# Altium schematic symbol library Schlib.SchLib: 53 symbols
Pins are listed as number, name and electrical type; pins without a type are passive.

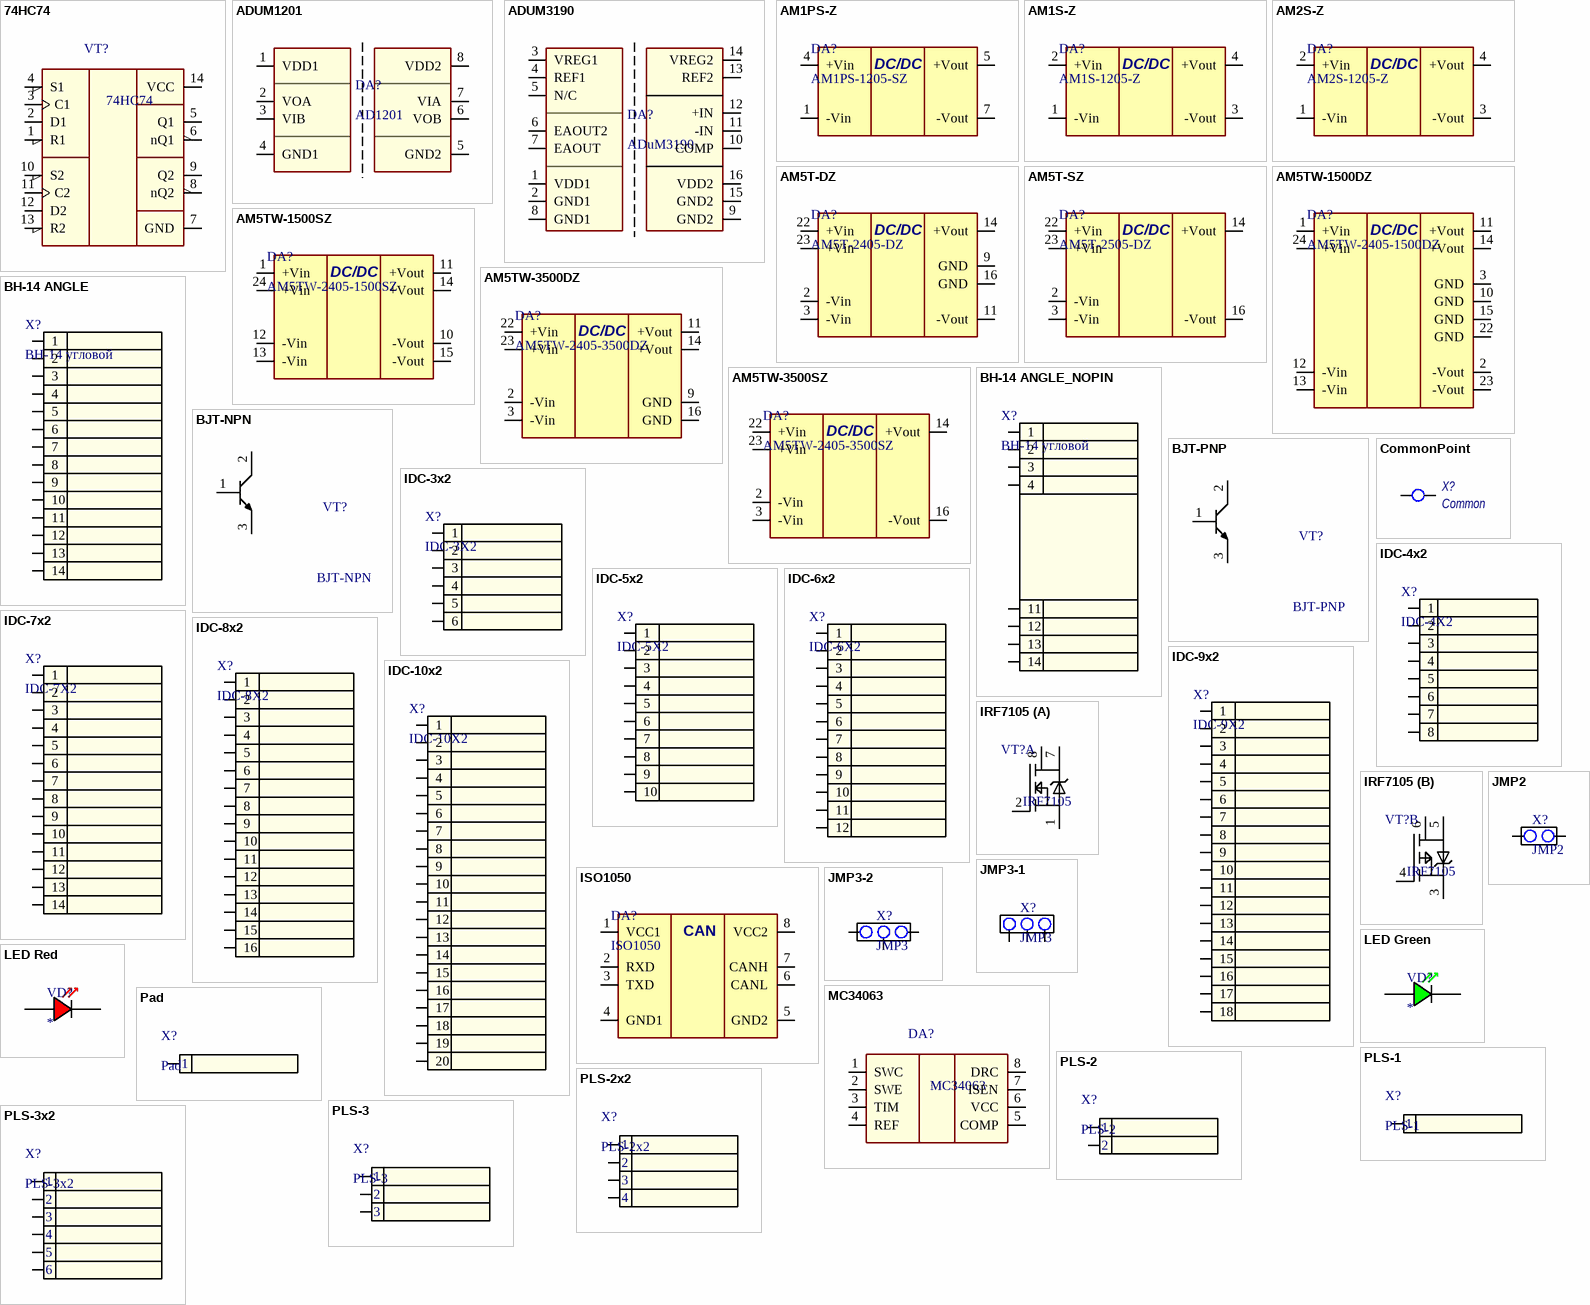
[diagram p0: symbols 74HC74 to PLS-3x2]

## 74HC74
designator VT?
Name: D-Триггер сдвоенный; NameSRT: 74HC74
footprint SO14-3.9
pins: 1 R1, 2 D1, 3 C1, 4 S1, 5 Q1, 6 nQ1, 7 GND, 8 nQ2, 9 Q2, 10 S2, 11 C2, 12 D2, 13 R2, 14 VCC

## ADUM1201
designator DA?, comment AD1201
RX/TX ISO; Name: изолятор AD1201; ManufacnurerPartNumber: изолятор AD1201; NameSRT: AD1201
footprint SOP-8
pins: 1 VDD1, 2 VOA, 3 VIB, 4 GND1, 5 GND2, 6 VOB, 7 VIA, 8 VDD2

## ADUM3190
designator DA?, comment ADuM3190
Аналоговый изолятор; Name: Аналоговый изолятор ADuM3190; ManufacnurerPartNumber: Аналоговый изолятор ADuM3190; =NameSRT: ADuM3190
footprint QSOP-16
pins: 1 VDD1, 2 GND1, 3 VREG1, 4 REF1, 5 N/C, 6 EAOUT2, 7 EAOUT, 8 GND1, 9 GND2, 10 COMP, 11 -IN, 12 +IN, 13 REF2, 14 VREG2, 15 GND2, 16 VDD2

## AM1PS-Z
designator DA?, comment AM1PS-1205-SZ
DC/DC преобразователь; Name: DC/DC преобразователь AM1PS-1205NZ; NameSRT: AM1PS-1205-SZ
footprint AM1PS
pins: 1 -Vin, 4 +Vin, 5 +Vout, 7 -Vout
text: DC/DC

## AM1S-Z
designator DA?, comment AM1S-1205-Z
DC/DC преобразователь; Name: DC/DC преобразователь AM1S-1205SZ; NameSRT: AM1S-1205-Z
footprint AM1S
pins: 1 -Vin, 2 +Vin, 3 -Vout, 4 +Vout
text: DC/DC

## AM2S-Z
designator DA?, comment AM2S-1205-Z
DC/DC преобразователь; Name: DC/DC преобразователь AM2S-1205SZ; NameSRT: AM2S-1205-Z
footprint AM2S
pins: 1 -Vin, 2 +Vin, 3 -Vout, 4 +Vout
text: DC/DC

## AM5T-DZ
designator DA?, comment AM5T-2405-DZ
DC/DC преобразователь; Name: DC/DC преобразователь AM5T-2405DZ; NameSRT: AM5T-2405-DZ
footprint AM5T
pins: 2 -Vin, 3 -Vin, 9 GND, 11 -Vout, 14 +Vout, 16 GND, 22 +Vin, 23 +Vin
text: DC/DC

## AM5T-SZ
designator DA?, comment AM5T-2505-DZ
DC/DC преобразователь; Name: DC/DC преобразователь AM5T-2405SZ; NameSRT: AM5T-2505-DZ
footprint AM5T
pins: 2 -Vin, 3 -Vin, 14 +Vout, 16 -Vout, 22 +Vin, 23 +Vin
text: DC/DC

## AM5TW-1500DZ
designator DA?, comment AM5TW-2405-1500DZ
DC/DC преобразователь; Name: DC/DC преобразователь AM5TW-2405DZ; NameSRT: AM5TW-2405-1500DZ
footprint AM5TW
pins: 1 +Vin, 2 -Vout, 3 GND, 10 GND, 11 +Vout, 12 -Vin, 13 -Vin, 14 +Vout, 15 GND, 22 GND, 23 -Vout, 24 +Vin
text: DC/DC

## AM5TW-1500SZ
designator DA?, comment AM5TW-2405-1500SZ
DC/DC преобразователь; Name: DC/DC преобразователь AM5TW-2405DZ; NameSRT: AM5TW-2405-1500SZ
footprint AM5TW
pins: 1 +Vin, 10 -Vout, 11 +Vout, 12 -Vin, 13 -Vin, 14 +Vout, 15 -Vout, 24 +Vin
text: DC/DC

## AM5TW-3500DZ
designator DA?, comment AM5TW-2405-3500DZ
DC/DC преобразователь; Name: DC/DC преобразователь AM5TW-2405DZ; NameSRT: AM5TW-2405-3500DZ
footprint AM5TW
pins: 2 -Vin, 3 -Vin, 9 GND, 11 +Vout, 14 +Vout, 16 GND, 22 +Vin, 23 +Vin
text: DC/DC

## AM5TW-3500SZ
designator DA?, comment AM5TW-2405-3500SZ
DC/DC преобразователь; Name: DC/DC преобразователь AM5TW-2405SZ; NameSRT: AM5TW-2405-3500SZ
footprint AM5TW
pins: 2 -Vin, 3 -Vin, 14 +Vout, 16 -Vout, 22 +Vin, 23 +Vin
text: DC/DC

## BH-14 ANGLE
designator X?, comment BH-14 угловой
Разъем BH-14; Name: Разъем на плату BH-14; NameSRT: BH-14 угловой
footprint BH14-ANGLE
pins: 1, 2, 3, 4, 5, 6, 7, 8, 9, 10, 11, 12, 13, 14

## BH-14 ANGLE_NOPIN
designator X?, comment BH-14 угловой
Разъем BH-14 с пробелом; Name: Разъем на плату BH-14; NameSRT: BH-14 угловой
footprint BH14-ANGLE NOPINS
pins: 1, 2, 3, 4, 11, 12, 13, 14

## BJT-NPN
designator VT?
Name: BJT-NPN; NameST: BJT-NPN
footprint BJT TO-220
pins: 1, 2, 3
1 alternate drawing of the same symbol

## BJT-PNP
designator VT?
Name: BJT-PNP; NameST: BJT-PNP
footprint BJT TO-220
pins: 1, 2, 3
1 alternate drawing of the same symbol

## CommonPoint
designator X?, comment Common
Name: Точка присоединения внешнего компонента
footprint COMMON POINT
pins: 1 P, 2 N

## IDC-3x2
designator X?, comment IDC-3X2
Name: Штыри IDC 2.0мм; NameSRT: IDC-3X2
footprint IDC-3X2
pins: 1, 2, 3, 4, 5, 6

## IDC-4x2
designator X?, comment IDC-4X2
Name: Штыри IDC 2.0мм; NameSRT: IDC-4X2
footprint IDC-4X2
pins: 1, 2, 3, 4, 5, 6, 7, 8

## IDC-5x2
designator X?, comment IDC-5X2
Name: Штыри IDC 2.0мм; NameSRT: IDC-5X2
footprint IDC-5X2
pins: 1, 2, 3, 4, 5, 6, 7, 8, 9, 10

## IDC-6x2
designator X?, comment IDC-6X2
Name: Штыри IDC 2.0мм; NameSRT: IDC-6X2
footprint IDC-6X2
pins: 1, 2, 3, 4, 5, 6, 7, 8, 9, 10, 11, 12

## IDC-7x2
designator X?, comment IDC-7X2
Name: Штыри IDC 2.0мм; NameSRT: IDC-7X2
footprint IDC-7X2
pins: 1, 2, 3, 4, 5, 6, 7, 8, 9, 10, 11, 12, 13, 14

## IDC-8x2
designator X?, comment IDC-8X2
Name: Штыри IDC 2.0мм; NameSRT: IDC-8X2
footprint IDC-8X2
pins: 1, 2, 3, 4, 5, 6, 7, 8, 9, 10, 11, 12, 13, 14, 15, 16

## IDC-9x2
designator X?, comment IDC-9X2
Name: Штыри IDC 2.0мм; NameSRT: IDC-9X2
footprint IDC-9X2
pins: 1, 2, 3, 4, 5, 6, 7, 8, 9, 10, 11, 12, 13, 14, 15, 16, 17, 18

## IDC-10x2
designator X?, comment IDC-10X2
Name: Штыри IDC 2.0мм; NameSRT: IDC-10X2
footprint IDC-10X2
pins: 1, 2, 3, 4, 5, 6, 7, 8, 9, 10, 11, 12, 13, 14, 15, 16, 17, 18, 19, 20

## IRF7105
designator VT?
Name: P-ch + N-ch полевые транзистора IRF7105; =NameSRT: IRF7105
footprint SOP-8
part A pins: 1, 2, 7, 8
part B pins: 3, 4, 5, 6

## ISO1050
designator DA?
Изолятор CAN; Name: Изолятор CAN ISO1050; NameSRT: ISO1050
footprint DIP-8 SMD
pins: 1 VCC1, 2 RXD, 3 TXD, 4 GND1, 5 GND2, 6 CANL, 7 CANH, 8 VCC2
text: CAN

## JMP2
designator X?
Name: Штыри PLS-2
footprint PLS-2
pins: 1, 2

## JMP3-1
designator X?, comment JMP3
Name: Штыри PLS-3
footprint PLS-3
pins: 1, 2, 3

## JMP3-2
designator X?, comment JMP3
Name: Штыри PLS-3
footprint PLS-3
pins: 1, 2, 3

## LED Green
designator VD?
светодиод d3мм зелёный; Name: Светодиод d3мм зеленый L-424GDT
footprint LED 3MM
footprint LED 5mm
footprint LED 10MM
pins: 1 A, 2 K

## LED Red
designator VD?
светодиод d3мм красный; Name: Светодиод 3мм красный L-424IDT
footprint LED 5mm
footprint LED 3MM
footprint LED 10MM
pins: 1 A, 2 K

## MC34063
designator DA?
Name: Импульсный регулятор; NameSRT: MC34063
footprint SOP-8
pins: 1 SWC, 2 SWE, 3 TIM, 4 REF, 5 COMP, 6 VCC, 7 ISEN, 8 DRC

## Pad
designator X?
Name: Pad
footprint Pad 2.0x2.0
footprint Pad 1.5x1.5
footprint Pad 2.5x2.5
footprint Pad 3.0x3.0
footprint Pad 3.5x3.5
footprint Pad 1.0x1.0
pins: 1

## PLS-1
designator X?
Name: Штыри PLS-1
footprint PLS-1
pins: 1

## PLS-2
designator X?
Name: Штыри PLS-2
footprint PLS-2
pins: 1, 2

## PLS-2x2
designator X?
Name: Штыри PLS-2x2
footprint PLS-2x2
pins: 1, 2, 3, 4

## PLS-3
designator X?
Name: Штыри PLS-3
footprint PLS-3
pins: 1, 2, 3

## PLS-3x2
designator X?
Name: Штыри PLS-3x2
footprint PLS-3x2
pins: 1, 2, 3, 4, 5, 6

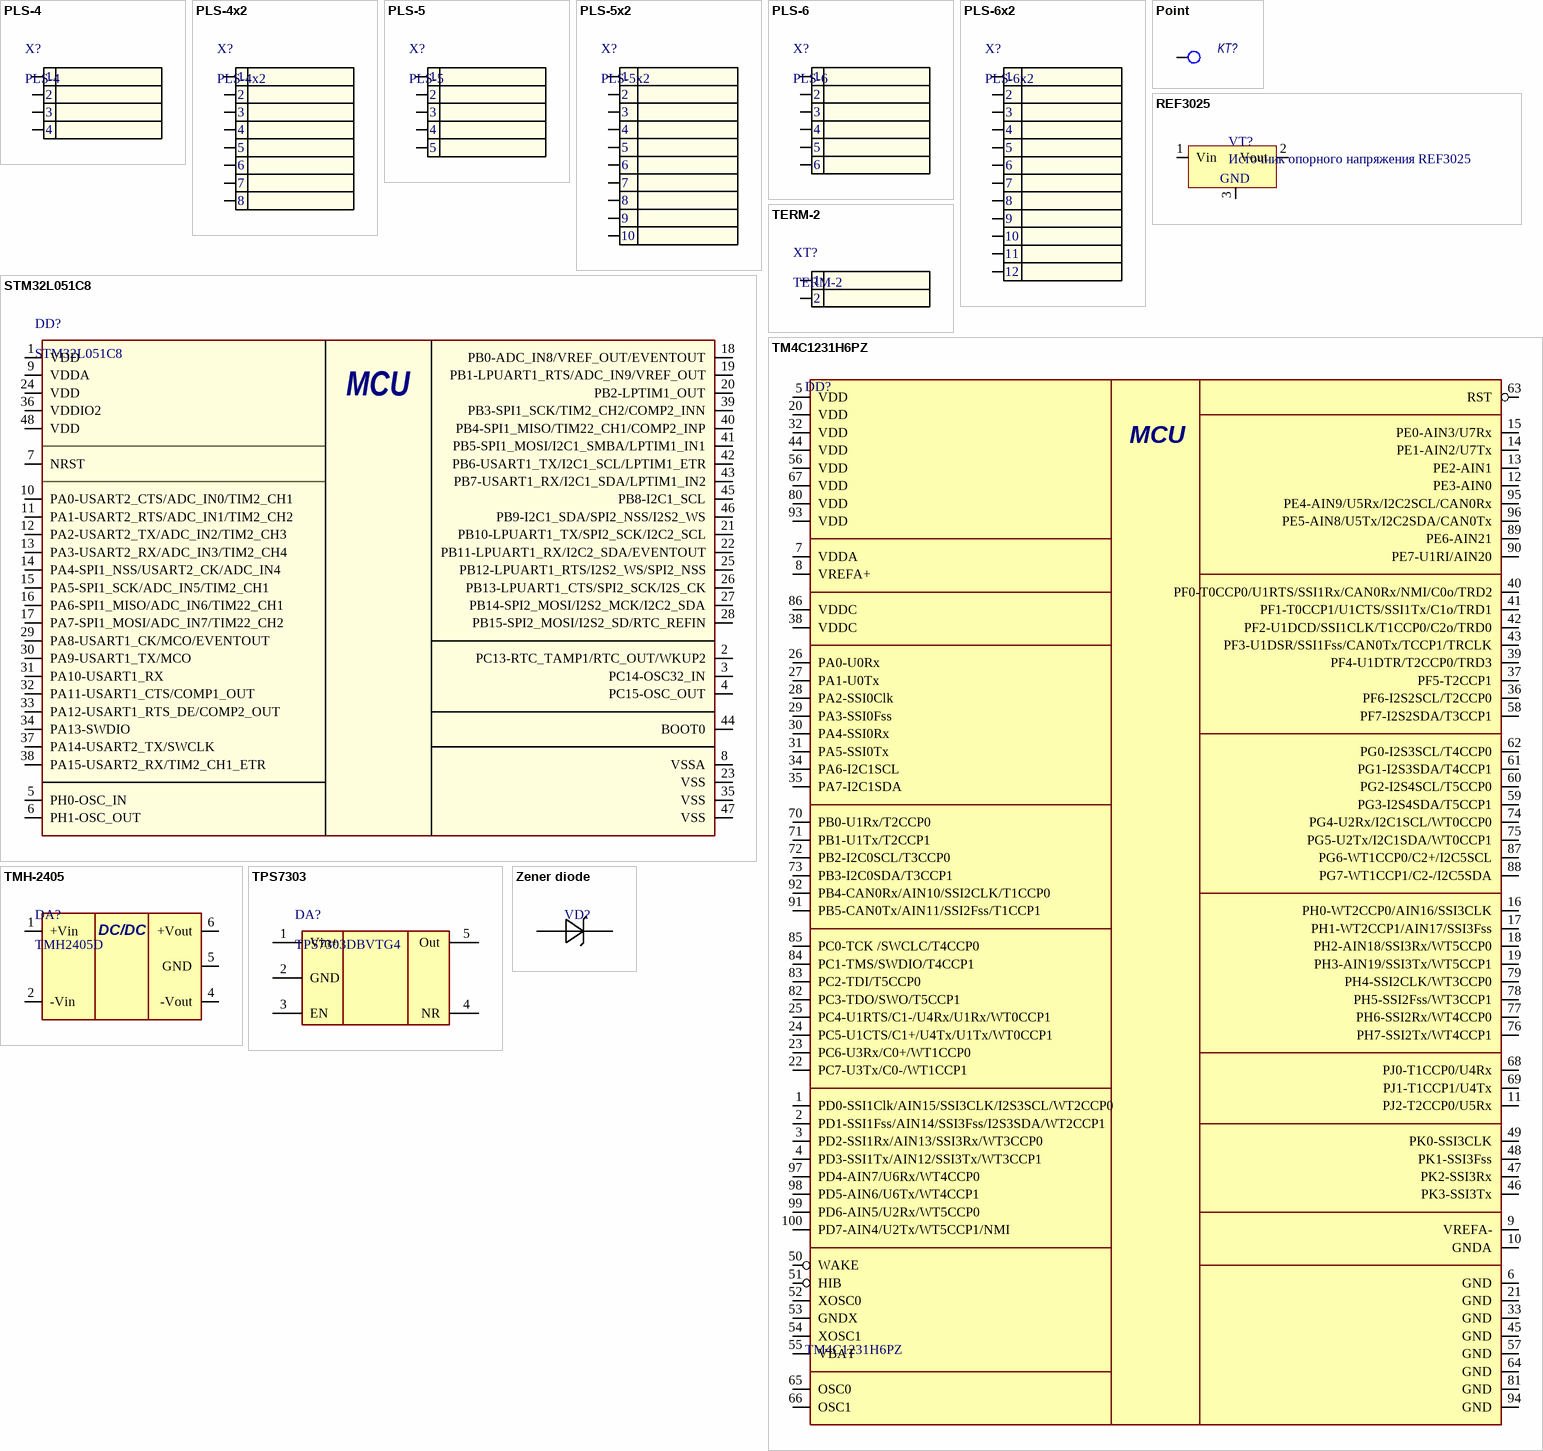
[diagram p1: symbols PLS-4 to Zener diode]

## PLS-4
designator X?
Name: Штыри PLS-4
footprint PLS-4
pins: 1, 2, 3, 4

## PLS-4x2
designator X?
Name: Штыри PLS-4x2
footprint PLS-4x2
pins: 1, 2, 3, 4, 5, 6, 7, 8

## PLS-5
designator X?
Name: Штыри PLS-5
footprint PLS-5
pins: 1, 2, 3, 4, 5

## PLS-5x2
designator X?
Name: Штыри PLS-5x2
footprint PLS-5x2
pins: 1, 2, 3, 4, 5, 6, 7, 8, 9, 10

## PLS-6
designator X?
Name: Штыри PLS-6
footprint PLS-6
pins: 1, 2, 3, 4, 5, 6

## PLS-6x2
designator X?
Name: Штыри PLS-6x2
footprint PLS-6x2
pins: 1, 2, 3, 4, 5, 6, 7, 8, 9, 10, 11, 12

## Point
designator KT?  (value not drawn)
Name: Точка присоединения внешнего компонента
footprint Pad 1.0x1.0 NOHOLE
footprint Pad 1.5x1.5 NOHOLE
footprint Pad 2.0x2.0 NOHOLE
pins: 1

## REF3025
designator VT?, comment Источник опорного напряжения REF3025
Name: Источник опорного напряжения REF3025; NameSRT: REF3025
footprint BJT SOT-23-3
pins: 1 Vin, 2 Vout, 3
text: GND

## STM32L051C8
designator DD?
Name: Микроконтроллер STM32L051C8T6; NameSRT: STM32L051C8
footprint STM32L051C8T6
pins: 1 VDD, 2 PC13-RTC_TAMP1/RTC_OUT/WKUP2, 3 PC14-OSC32_IN, 4 PC15-OSC_OUT, 5 PH0-OSC_IN, 6 PH1-OSC_OUT, 7 NRST, 8 VSSA, 9 VDDA, 10 PA0-USART2_CTS/ADC_IN0/TIM2_CH1, 11 PA1-USART2_RTS/ADC_IN1/TIM2_CH2, 12 PA2-USART2_TX/ADC_IN2/TIM2_CH3, 13 PA3-USART2_RX/ADC_IN3/TIM2_CH4, 14 PA4-SPI1_NSS/USART2_CK/ADC_IN4, 15 PA5-SPI1_SCK/ADC_IN5/TIM2_CH1, 16 PA6-SPI1_MISO/ADC_IN6/TIM22_CH1, 17 PA7-SPI1_MOSI/ADC_IN7/TIM22_CH2, 18 PB0-ADC_IN8/VREF_OUT/EVENTOUT, 19 PB1-LPUART1_RTS/ADC_IN9/VREF_OUT, 20 PB2-LPTIM1_OUT, 21 PB10-LPUART1_TX/SPI2_SCK/I2C2_SCL, 22 PB11-LPUART1_RX/I2C2_SDA/EVENTOUT, 23 VSS, 24 VDD, 25 PB12-LPUART1_RTS/I2S2_WS/SPI2_NSS, 26 PB13-LPUART1_CTS/SPI2_SCK/I2S_CK, 27 PB14-SPI2_MOSI/I2S2_MCK/I2C2_SDA, 28 PB15-SPI2_MOSI/I2S2_SD/RTC_REFIN, 29 PA8-USART1_CK/MCO/EVENTOUT, 30 PA9-USART1_TX/MCO, 31 PA10-USART1_RX, 32 PA11-USART1_CTS/COMP1_OUT, 33 PA12-USART1_RTS_DE/COMP2_OUT, 34 PA13-SWDIO, 35 VSS, 36 VDDIO2, 37 PA14-USART2_TX/SWCLK, 38 PA15-USART2_RX/TIM2_CH1_ETR, 39 PB3-SPI1_SCK/TIM2_CH2/COMP2_INN, 40 PB4-SPI1_MISO/TIM22_CH1/COMP2_INP, 41 PB5-SPI1_MOSI/I2C1_SMBA/LPTIM1_IN1, 42 PB6-USART1_TX/I2C1_SCL/LPTIM1_ETR, 43 PB7-USART1_RX/I2C1_SDA/LPTIM1_IN2, 44 BOOT0, 45 PB8-I2C1_SCL, 46 PB9-I2C1_SDA/SPI2_NSS/I2S2_WS, 47 VSS, 48 VDD
text: MCU

## TERM-2
designator XT?
Name: Клеммный блок
footprint TERM-3.81-2
pins: 1, 2

## TM4C1231H6PZ
designator DD?
ManufacturerPartNumber: Mикроконтроллер TM4C1231H6PZ
footprint TM4C1231H6PZ
pins: 1 PD0-SSI1Clk/AIN15/SSI3CLK/I2S3SCL/WT2CCP0, 2 PD1-SSI1Fss/AIN14/SSI3Fss/I2S3SDA/WT2CCP1, 3 PD2-SSI1Rx/AIN13/SSI3Rx/WT3CCP0, 4 PD3-SSI1Tx/AIN12/SSI3Tx/WT3CCP1, 5 VDD, 6 GND, 7 VDDA, 8 VREFA+, 9 VREFA-, 10 GNDA, 11 PJ2-T2CCP0/U5Rx, 12 PE3-AIN0, 13 PE2-AIN1, 14 PE1-AIN2/U7Tx, 15 PE0-AIN3/U7Rx, 16 PH0-WT2CCP0/AIN16/SSI3CLK, 17 PH1-WT2CCP1/AIN17/SSI3Fss, 18 PH2-AIN18/SSI3Rx/WT5CCP0, 19 PH3-AIN19/SSI3Tx/WT5CCP1, 20 VDD, 21 GND, 22 PC7-U3Tx/C0-/WT1CCP1, 23 PC6-U3Rx/C0+/WT1CCP0, 24 PC5-U1CTS/C1+/U4Tx/U1Tx/WT0CCP1, 25 PC4-U1RTS/C1-/U4Rx/U1Rx/WT0CCP1, 26 PA0-U0Rx, 27 PA1-U0Tx, 28 PA2-SSI0Clk, 29 PA3-SSI0Fss, 30 PA4-SSI0Rx, 31 PA5-SSI0Tx, 32 VDD, 33 GND, 34 PA6-I2C1SCL, 35 PA7-I2C1SDA, 36 PF6-I2S2SCL/T2CCP0, 37 PF5-T2CCP1, 38 VDDC, 39 PF4-U1DTR/T2CCP0/TRD3, 40 PF0-T0CCP0/U1RTS/SSI1Rx/CAN0Rx/NMI/C0o/TRD2, 41 PF1-T0CCP1/U1CTS/SSI1Tx/C1o/TRD1, 42 PF2-U1DCD/SSI1CLK/T1CCP0/C2o/TRD0, 43 PF3-U1DSR/SSI1Fss/CAN0Tx/TCCP1/TRCLK, 44 VDD, 45 GND, 46 PK3-SSI3Tx, 47 PK2-SSI3Rx, 48 PK1-SSI3Fss, 49 PK0-SSI3CLK, 50 WAKE, 51 HIB, 52 XOSC0, 53 GNDX, 54 XOSC1, 55 VBAT, 56 VDD, 57 GND, 58 PF7-I2S2SDA/T3CCP1, 59 PG3-I2S4SDA/T5CCP1, 60 PG2-I2S4SCL/T5CCP0, 61 PG1-I2S3SDA/T4CCP1, 62 PG0-I2S3SCL/T4CCP0, 63 RST, 64 GND, 65 OSC0, 66 OSC1, 67 VDD, 68 PJ0-T1CCP0/U4Rx, 69 PJ1-T1CCP1/U4Tx, 70 PB0-U1Rx/T2CCP0, 71 PB1-U1Tx/T2CCP1, 72 PB2-I2C0SCL/T3CCP0, 73 PB3-I2C0SDA/T3CCP1, 74 PG4-U2Rx/I2C1SCL/WT0CCP0, 75 PG5-U2Tx/I2C1SDA/WT0CCP1, 76 PH7-SSI2Tx/WT4CCP1, 77 PH6-SSI2Rx/WT4CCP0, 78 PH5-SSI2Fss/WT3CCP1, 79 PH4-SSI2CLK/WT3CCP0, 80 VDD, 81 GND, 82 PC3-TDO/SWO/T5CCP1, 83 PC2-TDI/T5CCP0, 84 PC1-TMS/SWDIO/T4CCP1, 85 PC0-TCK /SWCLC/T4CCP0, 86 VDDC, 87 PG6-WT1CCP0/C2+/I2C5SCL, 88 PG7-WT1CCP1/C2-/I2C5SDA, 89 PE6-AIN21, 90 PE7-U1RI/AIN20, 91 PB5-CAN0Tx/AIN11/SSI2Fss/T1CCP1, 92 PB4-CAN0Rx/AIN10/SSI2CLK/T1CCP0, 93 VDD, 94 GND, 95 PE4-AIN9/U5Rx/I2C2SCL/CAN0Rx, 96 PE5-AIN8/U5Tx/I2C2SDA/CAN0Tx, 97 PD4-AIN7/U6Rx/WT4CCP0, 98 PD5-AIN6/U6Tx/WT4CCP1, 99 PD6-AIN5/U2Rx/WT5CCP0, 100 PD7-AIN4/U2Tx/WT5CCP1/NMI
text: MCU

## TMH-2405
designator DA?, comment TMH2405D
DC/DC преобразователь; Name: DC/DC преобразователь TMH-2405; NameSRT: TMH2405D
footprint TMH2D
pins: 1 +Vin, 2 -Vin, 4 -Vout, 5 GND, 6 +Vout
text: DC/DC

## TPS7303
designator DA?, comment TPS7303DBVTG4
Name: Стабилизатор напряжения TPS7303DBVTG4
footprint SOT-23-5
pins: 1 Vin+, 2 GND, 3 EN, 4 NR, 5 Out

## Zener diode
designator VD?, comment Стабилитрон BZV55  (value not drawn)
Zener diode; Name: Стабилитрон BZV55; Value: *
footprint DIODE SOD80C
pins: 1 Анод, 2 Катод